# Altium footprint library IMSA-9472B-80Z57-TM.PcbLib: 1 footprints
Each footprint in its own frame and in the unit in brackets; x right, y up, seen from the top. Pads: shape width x height; smd on the part's side, far side on the other; paste and mask are expansions set on the pad; w line width, h text height; cw(c..) or ccw(c..) is an arc to the next point about the centre after c.
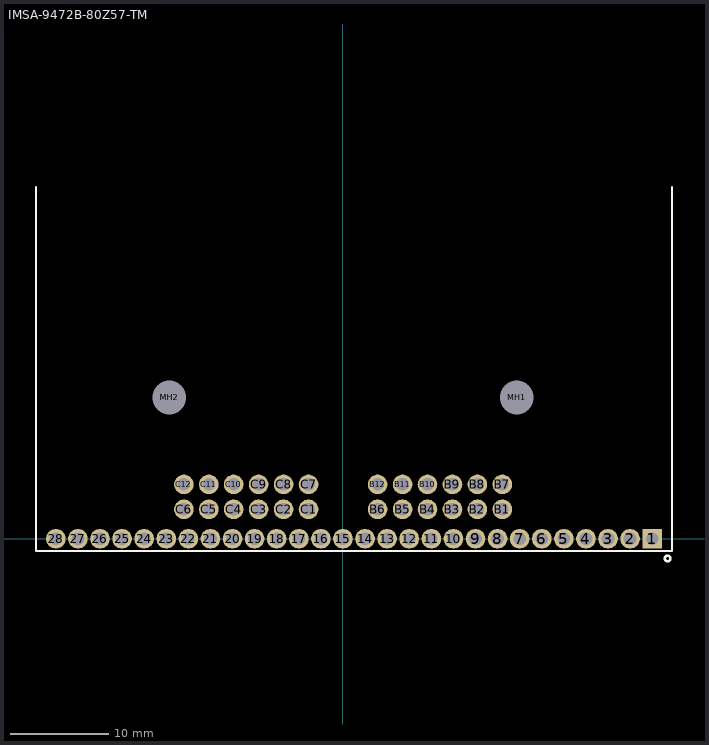
[diagram p0: the footprint, top view; thin cyan lines are the x and y axes]

## IMSA-9472B-80Z57-TM [mm]
pads (54):
  rect 2x2 hole 1.3: 1(31.5,0)
  round 2 hole 1.3: 2(29.25,0) 3(27,0) 4(24.75,0) 5(22.5,0) 6(20.25,0) 7(18,0) 8(15.75,0) 9(13.5,0) 10(11.25,0) 11(9,0) 12(6.75,0) 13(4.5,0) 14(2.25,0) 15(0,0) 16(-2.25,0) 17(-4.5,0) 18(-6.75,0) 19(-9,0) 20(-11.25,0) 21(-13.5,0) 22(-15.75,0) 23(-18,0) 24(-20.25,0) 25(-22.5,0) 26(-24.75,0) 27(-27,0) 28(-29.25,0) B1(16.231,3) B2(13.691,3) B3(11.151,3) B4(8.611,3) B5(6.071,3) B6(3.531,3) B7(16.231,5.54) B8(13.691,5.54) B9(11.151,5.54) B10(8.611,5.54) B11(6.071,5.54) B12(3.531,5.54) C1(-3.509,3) C2(-6.049,3) C3(-8.589,3) C4(-11.129,3) C5(-13.669,3) C6(-16.209,3) C7(-3.509,5.54) C8(-6.049,5.54) C9(-8.589,5.54) C10(-11.129,5.54) C11(-13.669,5.54) C12(-16.209,5.54)
  round 2 hole 3.45 unplated: MH1(17.7,14.39) MH2(-17.7,14.39)
Top Overlay:
  circle w0.254: c33.071,-2.007 r0.284
  lines w0.2: -31.287,-1.239 -31.287,35.854 ; -31.267,-1.27 33.477,-1.27 ; 33.533,-1.239 33.533,35.854
3D body "9472B-80Z57-TM.STEP": height 41.68, standoff -3.02, extent -31.242,-0.686 33.508,35.854